# Altium schematic symbol library GrandPrieeeSch.SchLib: 6 symbols
Pins are listed as number, name and electrical type; pins without a type are passive.

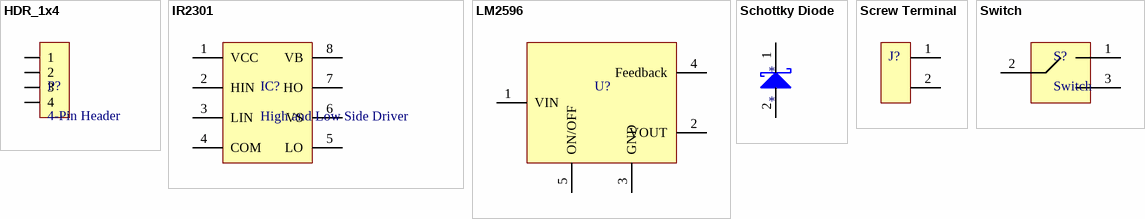
[diagram p0: symbols HDR_1x4 to Switch]

## HDR_1x4
designator P?, comment 4-Pin Header
footprint HDR-4P
pins: 1, 2, 3, 4

## IR2301
designator IC?, comment High and Low Side Driver
pins: 1 VCC, 2 HIN, 3 LIN, 4 COM, 5 LO, 6 VS, 7 HO, 8 VB

## LM2596
designator U?, comment Step-down switching regulator  (value not drawn)
footprint TO-220-5
pins: 1 VIN, 2 VOUT, 3 GND, 4 Feedback, 5 ON/OFF

## Schottky Diode
designator *
pins: 1 11, 2 10

## Screw Terminal
designator J?  (value not drawn)
2 Port Screw Terminal
footprint ST-2 (2 Port Screw Terminal)
pins: 1, 2

## Switch
designator S?
footprint E101 Switch
pins: 1 OUT, 2 IN, 3 OUT